# Altium footprint library PcbLib1.PcbLib: 1 footprints
Each footprint in its own frame and in the unit in brackets; x right, y up, seen from the top. Pads: shape width x height; smd on the part's side, far side on the other; paste and mask are expansions set on the pad; w line width, h text height; cw(c..) or ccw(c..) is an arc to the next point about the centre after c.
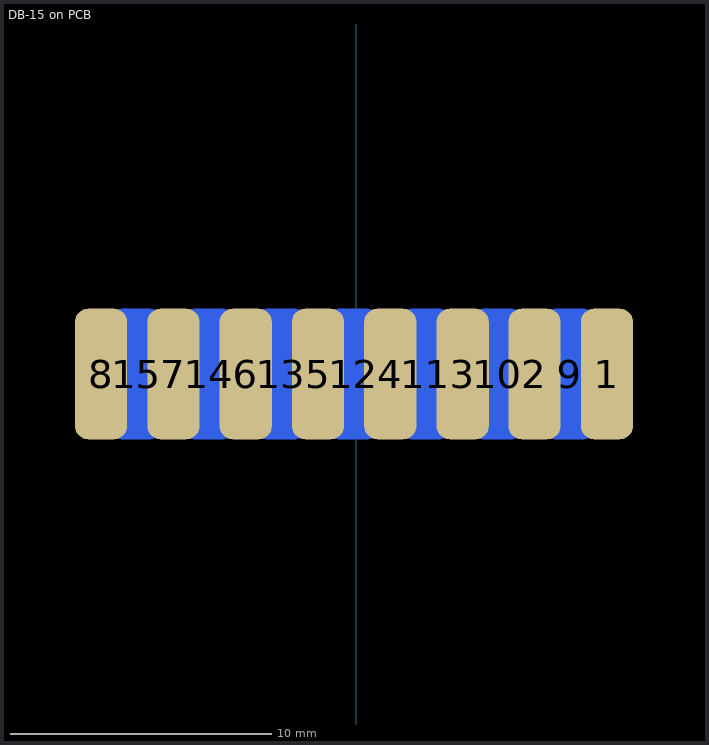
[diagram p0: the footprint, top view; thin cyan lines are the x and y axes]

## DB-15 on PCB [mm]
pads (15):
  rrect50% 2x5 smd: 1(9.6,14.5) 2(6.825,14.5) 3(4.075,14.5) 4(1.305,14.5) 5(-1.465,14.5) 6(-4.235,14.5) 7(-7.005,14.5) 8(-9.775,14.5)
  rrect50% 2x5 smd far side: 9(8.175,14.5) 10(5.4,14.5) 11(2.65,14.5) 12(-0.12,14.5) 13(-2.89,14.5) 14(-5.66,14.5) 15(-8.43,14.5)
3D body "c-5-747909-2-v-3d.stp": height 6.25, standoff -6.25, extent -19.6,0 19.6,14.9